# EAGLE library part DRV8835MOD (library ytani1)
DRV8835 Motor Driver Module https://akizukidenshi.com/catalog/g/gK-09848/ Vcc = 2V-7V Vm = 0V-11V Iout = 0V-1.5A Fpwm = 0Hz-250kHz Vin = 0V-Vcc
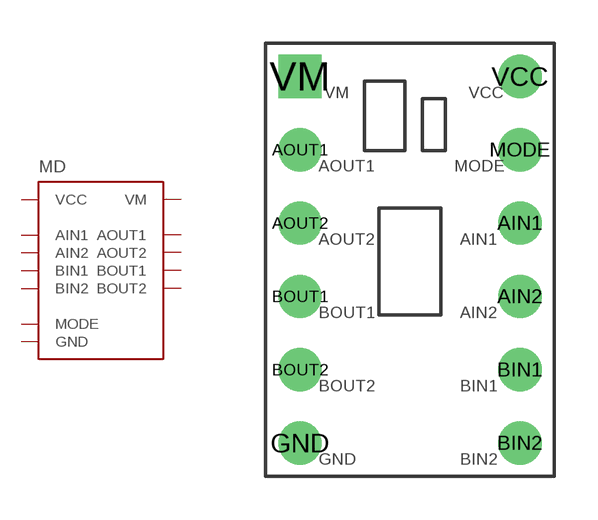
[diagram p6: symbol with the pads of DRV8835MOD; footprint DRV8835MOD]

Designator prefix MD

## DRV8835MOD (OC_AKIZUKI: K-09848; URL_AKIZUKI: https://akizukidenshi.com/catalog/g/gK-09848/)  [DRV8835MOD]
AIN1  AIN1  in
AIN2  AIN2  in
AOUT1  AOUT1  out
AOUT2  AOUT2  out
BIN1  BIN1  in
BIN2  BIN2  in
BOUT1  BOUT1  out
BOUT2  BOUT2  out
GND  GND  pwr
MODE  MODE  in
VCC  VCC  in
VM  VM  in

## Footprint DRV8835MOD (pad centres in mm)
drill 0.9 pad 1.5: AIN1 5.08,5.08; AIN2 5.08,2.54; AOUT1 -2.54,7.62; AOUT2 -2.54,5.08; BIN1 5.08,0; BIN2 5.08,-2.54; BOUT1 -2.54,2.54; BOUT2 -2.54,0; GND -2.54,-2.54; MODE 5.08,7.62; VCC 5.08,10.16
drill 0.9 pad 1.5 square: VM -2.54,10.16